# Altium footprint library PCB - LEADED - SOT95P275X110-5N.PCBLIB: 1 footprints
Each footprint in its own frame and in the unit in brackets; x right, y up, seen from the top. Pads: shape width x height; smd on the part's side, far side on the other; paste and mask are expansions set on the pad; w line width, h text height; cw(c..) or ccw(c..) is an arc to the next point about the centre after c.
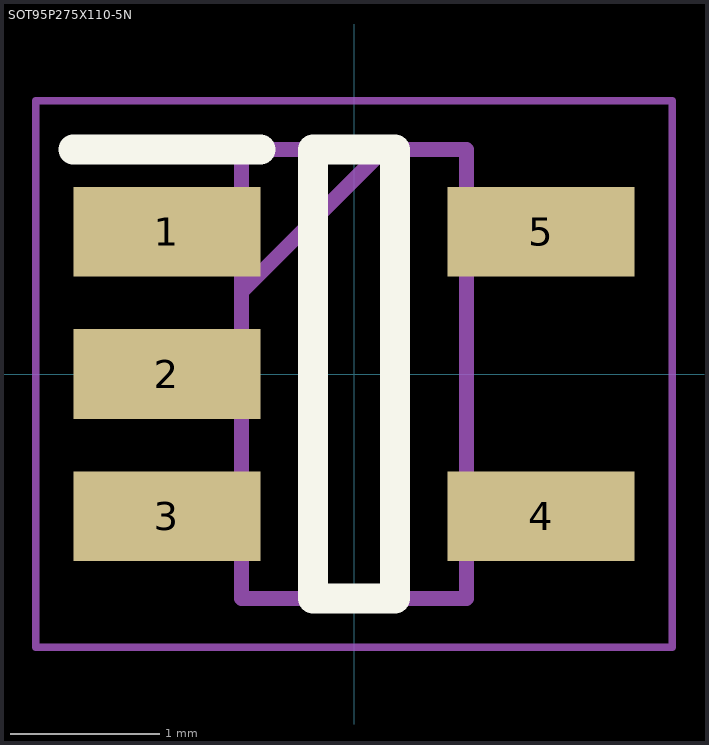
[diagram p0: the footprint, top view; thin cyan lines are the x and y axes]

## SOT95P275X110-5N [mm]
pads (5):
  rect 1.25x0.6 smd: 1(-1.25,0.95) 2(-1.25,0) 3(-1.25,-0.95) 4(1.25,-0.95) 5(1.25,0.95)
Top Overlay:
  lines w0.2: -1.875,1.5 -0.625,1.5 ; -0.275,-1.5 -0.275,1.5 0.275,1.5 0.275,-1.5 -0.275,-1.5
Top Assembly:
  lines w0.1: -0.75,0.55 0.2,1.5 ; -0.75,-1.5 -0.75,1.5 0.75,1.5 0.75,-1.5 -0.75,-1.5
Top Courtyard:
  lines w0.05: -2.125,-1.825 -2.125,1.825 2.125,1.825 2.125,-1.825 -2.125,-1.825
Top Designator:
  text ".Designator" at -2.253,-2.512 h1
Top Value (Mech13):
  text ".Comment" at -2.286,-3.164 h1
3D body "NCV8730ASNADJT1G.stp": height 1.1, standoff 0, extent -1.375,-1.5 1.375,1.5